# EAGLE library part TPS61030 (library ds_ic_vreg)
TPS6103x 96% Efficient Synchronous Boost Converter With 4A Switch
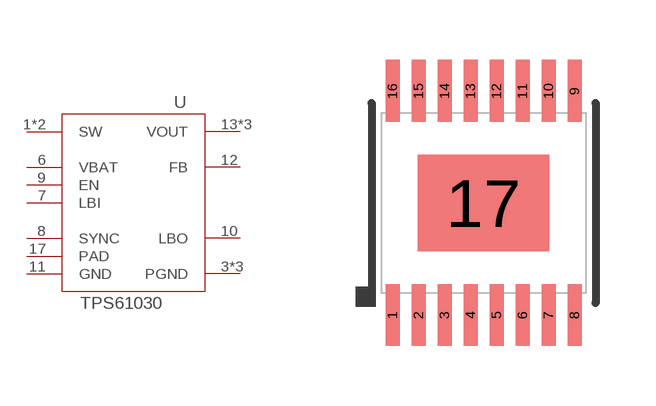
[diagram p19: symbol with the pads of TEXAS_HTSSOP16; footprint TEXAS_HTSSOP16]

Designator prefix -

## TPS61030""  [TEXAS_HTSSOP16]
1  SW
2  SW
3  PGND
4  PGND
5  PGND
6  VBAT
7  LBI
8  SYNC
9  EN
10  LBO
11  GND
12  FB
13  VOUT
14  VOUT
15  VOUT
17  PAD

## Footprint TEXAS_HTSSOP16 (pad centres in mm)
HTSSOP14 PowerPAD (R-PDSO-G16) pitch 0.635 mm, body 4.5 mm x 5.1 mm
smd 0.35 x 1.55: 1 -2.275,-2.8; 2 -1.625,-2.8; 3 -0.975,-2.8; 4 -0.325,-2.8; 5 0.325,-2.8; 6 0.975,-2.8; 7 1.625,-2.8; 8 2.275,-2.8; 9 2.275,2.8; 10 1.625,2.8; 11 0.975,2.8; 12 0.325,2.8; 13 -0.325,2.8; 14 -0.975,2.8; 15 -1.625,2.8; 16 -2.275,2.8
smd 3.29 x 2.41: 17 0,0